# Altium footprint library Auxiliary.PcbLib: 1 footprints
Each footprint in its own frame and in the unit in brackets; x right, y up, seen from the top. Pads: shape width x height; smd on the part's side, far side on the other; paste and mask are expansions set on the pad; w line width, h text height; cw(c..) or ccw(c..) is an arc to the next point about the centre after c.
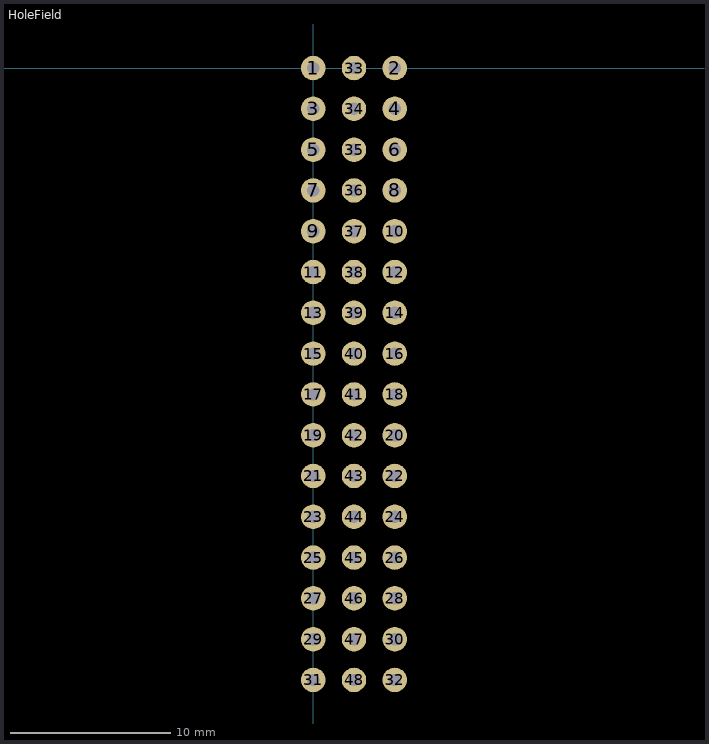
[diagram p0: the footprint, top view; thin cyan lines are the x and y axes]

## HoleField [mil]
pads (48):
  round 60 hole 30: 1(0,0) 2(200,0) 3(0,-100) 4(200,-100) 5(0,-200) 6(200,-200) 7(0,-300) 8(200,-300) 9(0,-400) 10(200,-400) 11(0,-500) 12(200,-500) 13(0,-600) 14(200,-600) 15(0,-700) 16(200,-700) 17(0,-800) 18(200,-800) 19(0,-900) 20(200,-900) 21(0,-1000) 22(200,-1000) 23(0,-1100) 24(200,-1100) 25(0,-1200) 26(200,-1200) 27(0,-1300) 28(200,-1300) 29(0,-1400) 30(200,-1400) 31(0,-1500) 32(200,-1500) 33(100,0) 34(100,-100) 35(100,-200) 36(100,-300) 37(100,-400) 38(100,-500) 39(100,-600) 40(100,-700) 41(100,-800) 42(100,-900) 43(100,-1000) 44(100,-1100) 45(100,-1200) 46(100,-1300) 47(100,-1400) 48(100,-1500)